# EAGLE library part HCF4093M013TR (library ST_Microelctronics_By_element14_Batch_1)
QUAD 2-input NAND Schmidt trigger
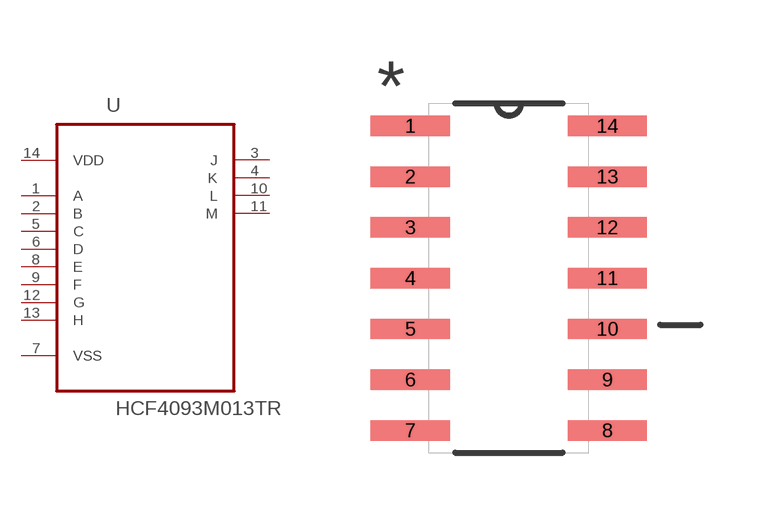
[diagram p22: symbol with the pads of SOP127P600X175-14N; footprint SOP127P600X175-14N]

Designator prefix U

## HCF4093M013TR (MPN: HCF4093M013TR; OC_FARNELL: 1467730; OC_NEWARK: 89K0588; PACKAGE: SOP-14; SUPPLIER: STMICROELECTRONICS)  [SOP127P600X175-14N]
1  A  in
2  B  in
3  J  out
4  K  out
5  C  in
6  D  in
7  VSS  pas
8  E  in
9  F  in
10  L  out
11  M  out
12  G  in
13  H  in
14  VDD  pwr

## Footprint SOP127P600X175-14N (pad centres in mm)
smd 1.981 x 0.508: 1 -2.464,3.81; 2 -2.464,2.54; 3 -2.464,1.27; 4 -2.464,0; 5 -2.464,-1.27; 6 -2.464,-2.54; 7 -2.464,-3.81; 8 2.464,-3.81; 9 2.464,-2.54; 10 2.464,-1.27; 11 2.464,0; 12 2.464,1.27; 13 2.464,2.54; 14 2.464,3.81